# EAGLE library part TCS3771 (library anykey)
TAOS/ams color/light/proximity sensor
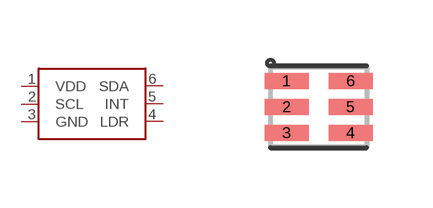
[diagram p20: symbol with the pads of DFN-6-0.65; footprint DFN-6-0.65]

Designator prefix -

## TCS3771  [DFN-6-0.65]
1  VDD  pwr
2  SCL
3  GND  pwr
4  LDR  out
5  INT  out
6  SDA

## Footprint DFN-6-0.65 (pad centres in mm)
smd 1.1 x 0.4: 1 -0.8,0.65; 2 -0.8,0; 3 -0.8,-0.65; 4 0.8,-0.65; 5 0.8,0; 6 0.8,0.65